# Altium integrated library TI Data Converters Digital to Analog Converter.IntLib: 1533 symbols (part 92 of 99)
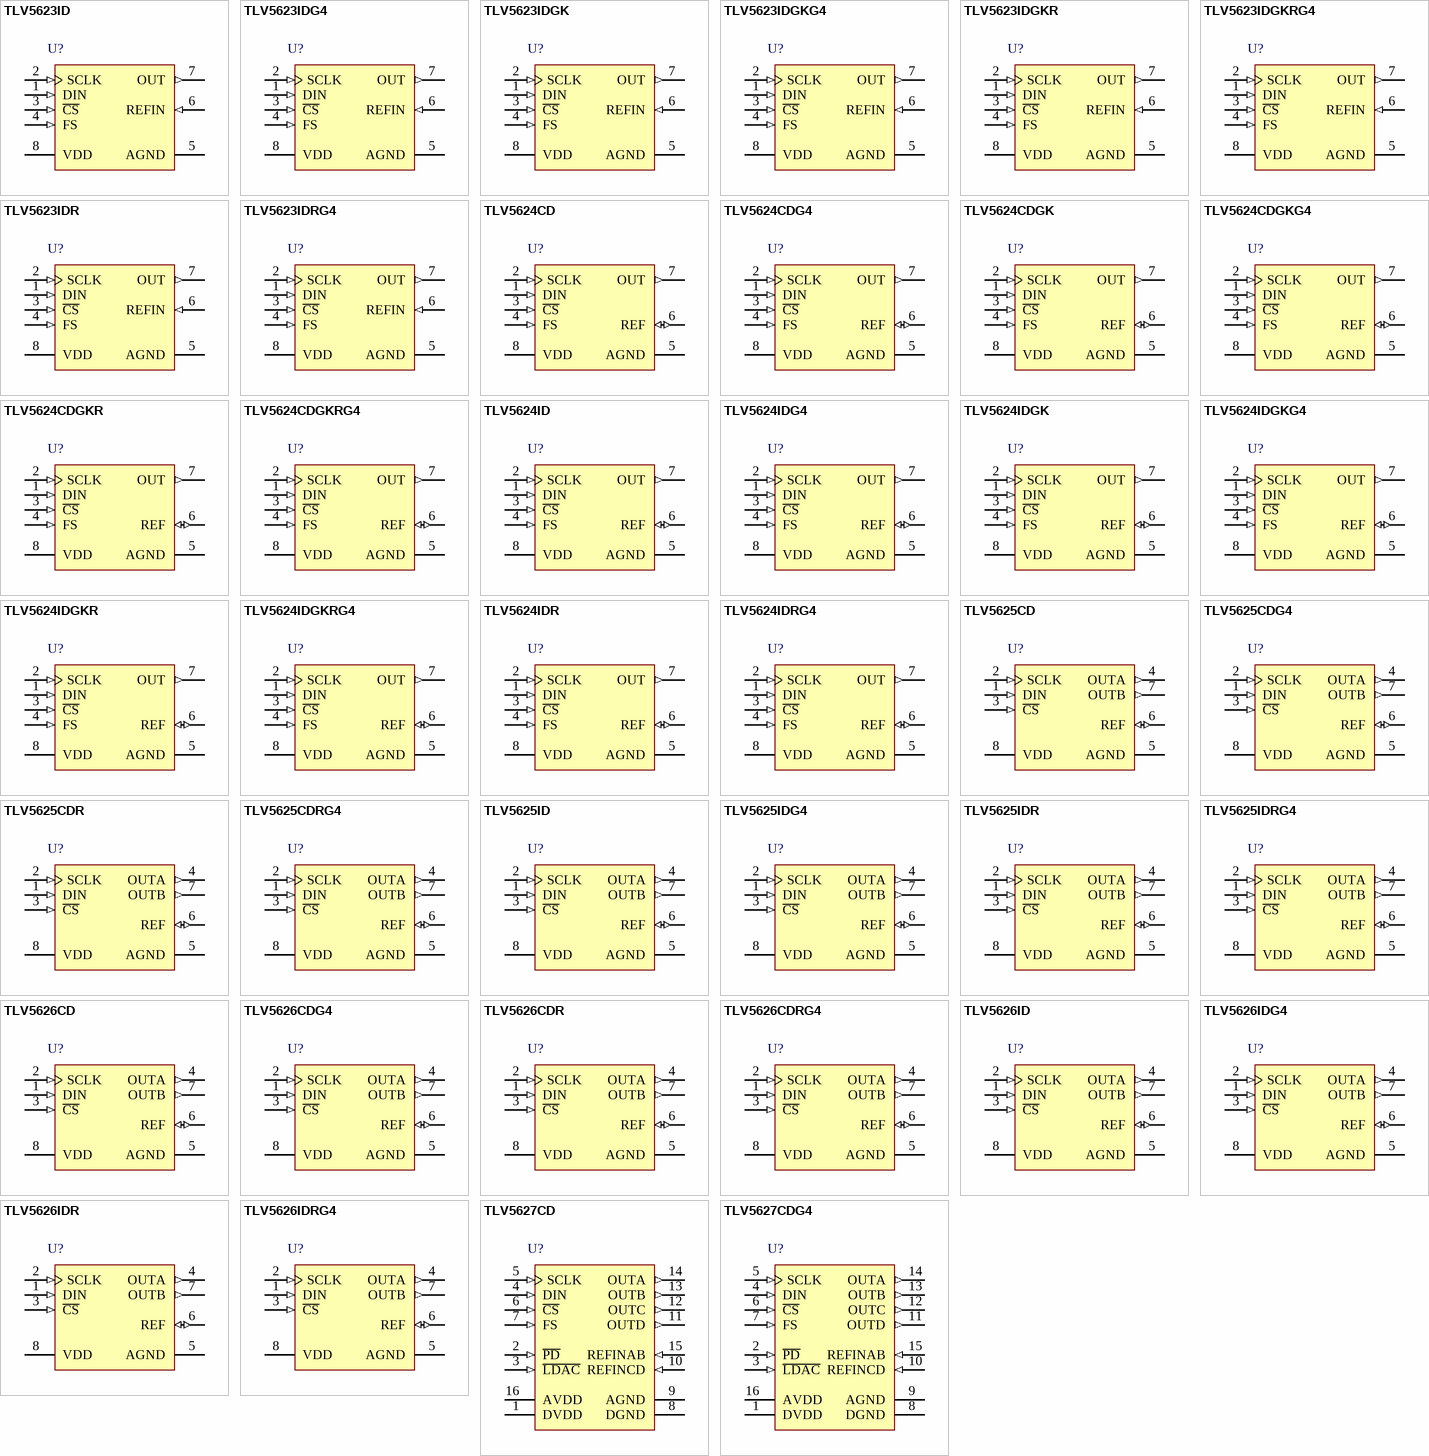
[diagram p164: symbols TLV5623ID to TLV5627CDG4]

## TLV5626IDRG4
designator U?
8-Bit, 1 us Dual DAC, Serial Input, Programmable Internal Reference, Settling Time, -40 to 85 degC, 8-pin SOIC (D8), Green (RoHS & no Sb/Br); Manufacturer: Texas Instruments; PartNumber: TLV5626IDRG4; DAC Channels: 2; DNL(Max)(+/-LSB): 0.5; INL(Max)(+/-LSB): 1; Interface: Serial SPI; Power Consumption(Typ)(mW): 4.2; Resolution(Bits): 8; Settling Time(us): 0.8; SFDR(dB): 62; SNR(dB): 57; SubFamily: Precision DAC (=<10MSPS); DatasheetVersion: SLAS236A; PackageVersion: 4040047-3/M, 06/2011; PackageReference: D8; PackageDescription: 8-Pin Plastic Small Outline, Body 4.9 x 3.9 mm, Pitch 1.27 mm; Supplier 1: Digi-Key; Supplier Part Number 1: TLV5626IDRG4-ND; Supplier 2: Mouser; Supplier Part Number 2: 595-TLV5626IDRG4; Eco-Plan: Green (RoHS & no Sb/Br); Mounting Technology: Surface Mount; Code_JEDEC: MS-012; ComponentLink1Description: Manufacturer URL; ComponentLink1URL: http://www.ti.com/; ComponentLink2Description: Datasheet; ComponentLink2URL: http://www.ti.com/general/docs/lit/getliterature.tsp?genericPartNumber=TLV5626&fileType=pdf; ComponentLink3Description: Package Specification; ComponentLink3URL: http://www.ti.com/litv/pdf/msoi002j
footprint TI-D8_N (SOIC, 8-Leads, Body 4.9x3.9mm, Pitch 1.27mm, IPC Medium Density)
footprint TI-D8_L (SOIC, 8-Leads, Body 4.9x3.9mm, Pitch 1.27mm, IPC High Density)
footprint TI-D8_M (SOIC, 8-Leads, Body 4.9x3.9mm, Pitch 1.27mm, IPC Low Density)
pins: 1 DIN (in) "Digital serial data input", 2 SCLK (in) "Digital serial clock input", 3 ~{CS} (in) "Chip select. Digital input active low, used to enable/disable inputs", 4 OUTA (out) "DAC A analog voltage output", 5 AGND (power) "Ground", 6 REF (io) "Analog reference voltage input/output", 7 OUTB (out) "DAC B analog voltage output", 8 VDD (power) "Positive power supply"

## TLV5627CD
designator U?
8-Bit, 3 us Quad DAC, Serial Input, Low Power, Hardware or Software Power Down, 0 to 70 degC, 16-pin SOIC (D16), Green (RoHS & no Sb/Br); Manufacturer: Texas Instruments; PartNumber: TLV5627CD; DAC Channels: 4; DNL(Max)(+/-LSB): 0.5; Interface: Serial SPI; Power Consumption(Typ)(mW): 3; Resolution(Bits): 8; Settling Time(us): 2.5; SFDR(dB): 60; SNR(dB): 57; SubFamily: Precision DAC (=<10MSPS); DatasheetVersion: SLAS232A; PackageVersion: 4040047-6/M, 06/2011; PackageReference: D16; PackageDescription: 16-Pin Plastic Small Outline, Body 9.9 x 3.9 mm, Pitch 1.27 mm; Supplier 1: Digi-Key; Supplier Part Number 1: 296-2312-5-ND; Supplier 2: Newark; Supplier Part Number 2: 19C9017; Supplier 3: Mouser; Supplier Part Number 3: 595-TLV5627CD; Eco-Plan: Green (RoHS & no Sb/Br); INL(Max)(+/-LSB): 0.5; Mounting Technology: Surface Mount; Code_JEDEC: MS-012; ComponentLink1Description: Manufacturer URL; ComponentLink1URL: http://www.ti.com/; ComponentLink2Description: Datasheet; ComponentLink2URL: http://www.ti.com/general/docs/lit/getliterature.tsp?genericPartNumber=TLV5627&fileType=pdf; ComponentLink3Description: Package Specification; ComponentLink3URL: http://www.ti.com/litv/pdf/mpds178g
footprint TI-D16_N (SOIC, 16-Leads, Body 9.9x3.9mm, Pitch 1.27mm, IPC Medium Density)
footprint TI-D16_L (SOIC, 16-Leads, Body 9.9x3.9mm, Pitch 1.27mm, IPC High Density)
footprint TI-D16_M (SOIC, 16-Leads, Body 9.9x3.9mm, Pitch 1.27mm, IPC Low Density)
pins: 1 DVDD (power) "Digital supply", 2 ~{PD} (in) "Power-down pin. Powers down all DACs (overriding their individual power down settings), and all output stages. This terminal is active low.", 3 ~{LDAC} (in) "Load DAC. When the L\D\A\C\ signal is high, no DAC output updates occur when the input digital data is read into the serial interface. The DAC outputs are only updated when L\D\A\C\ is low.", 4 DIN (in) "Serial data input", 5 SCLK (in) "Serial clock input", 6 ~{CS} (in) "Chip select. This terminal is active low.", 7 FS (in) "Frame sync input. The falling edge of the frame sync pulse indicates the start of a serial data frame shifted out to the TLV5627.", 8 DGND (power) "Digital ground", 9 AGND (power) "Analog ground", 10 REFINCD (in) "Voltage reference input for DACs C and D.", 11 OUTD (out) "DAC D output", 12 OUTC (out) "DAC C output", 13 OUTB (out) "DAC B output", 14 OUTA (out) "DAC A output", 15 REFINAB (in) "Voltage reference input for DACs A and B.", 16 AVDD (power) "Analog supply"

## TLV5627CDG4
designator U?
8-Bit, 3 us Quad DAC, Serial Input, Low Power, Hardware or Software Power Down, 0 to 70 degC, 16-pin SOIC (D16), Green (RoHS & no Sb/Br); Manufacturer: Texas Instruments; PartNumber: TLV5627CDG4; DAC Channels: 4; DNL(Max)(+/-LSB): 0.5; Interface: Serial SPI; Power Consumption(Typ)(mW): 3; Resolution(Bits): 8; Settling Time(us): 2.5; SFDR(dB): 60; SNR(dB): 57; SubFamily: Precision DAC (=<10MSPS); DatasheetVersion: SLAS232A; PackageVersion: 4040047-6/M, 06/2011; PackageReference: D16; PackageDescription: 16-Pin Plastic Small Outline, Body 9.9 x 3.9 mm, Pitch 1.27 mm; Supplier 1: Digi-Key; Supplier Part Number 1: TLV5627CDG4-ND; Supplier 2: Newark; Supplier Part Number 2: 66K4456; Supplier 3: Mouser; Supplier Part Number 3: 595-TLV5627CDG4; Eco-Plan: Green (RoHS & no Sb/Br); INL(Max)(+/-LSB): 0.5; Mounting Technology: Surface Mount; Code_JEDEC: MS-012; ComponentLink1Description: Manufacturer URL; ComponentLink1URL: http://www.ti.com/; ComponentLink2Description: Datasheet; ComponentLink2URL: http://www.ti.com/general/docs/lit/getliterature.tsp?genericPartNumber=TLV5627&fileType=pdf; ComponentLink3Description: Package Specification; ComponentLink3URL: http://www.ti.com/litv/pdf/mpds178g
footprint TI-D16_N (SOIC, 16-Leads, Body 9.9x3.9mm, Pitch 1.27mm, IPC Medium Density)
footprint TI-D16_L (SOIC, 16-Leads, Body 9.9x3.9mm, Pitch 1.27mm, IPC High Density)
footprint TI-D16_M (SOIC, 16-Leads, Body 9.9x3.9mm, Pitch 1.27mm, IPC Low Density)
pins: 1 DVDD (power) "Digital supply", 2 ~{PD} (in) "Power-down pin. Powers down all DACs (overriding their individual power down settings), and all output stages. This terminal is active low.", 3 ~{LDAC} (in) "Load DAC. When the L\D\A\C\ signal is high, no DAC output updates occur when the input digital data is read into the serial interface. The DAC outputs are only updated when L\D\A\C\ is low.", 4 DIN (in) "Serial data input", 5 SCLK (in) "Serial clock input", 6 ~{CS} (in) "Chip select. This terminal is active low.", 7 FS (in) "Frame sync input. The falling edge of the frame sync pulse indicates the start of a serial data frame shifted out to the TLV5627.", 8 DGND (power) "Digital ground", 9 AGND (power) "Analog ground", 10 REFINCD (in) "Voltage reference input for DACs C and D.", 11 OUTD (out) "DAC D output", 12 OUTC (out) "DAC C output", 13 OUTB (out) "DAC B output", 14 OUTA (out) "DAC A output", 15 REFINAB (in) "Voltage reference input for DACs A and B.", 16 AVDD (power) "Analog supply"

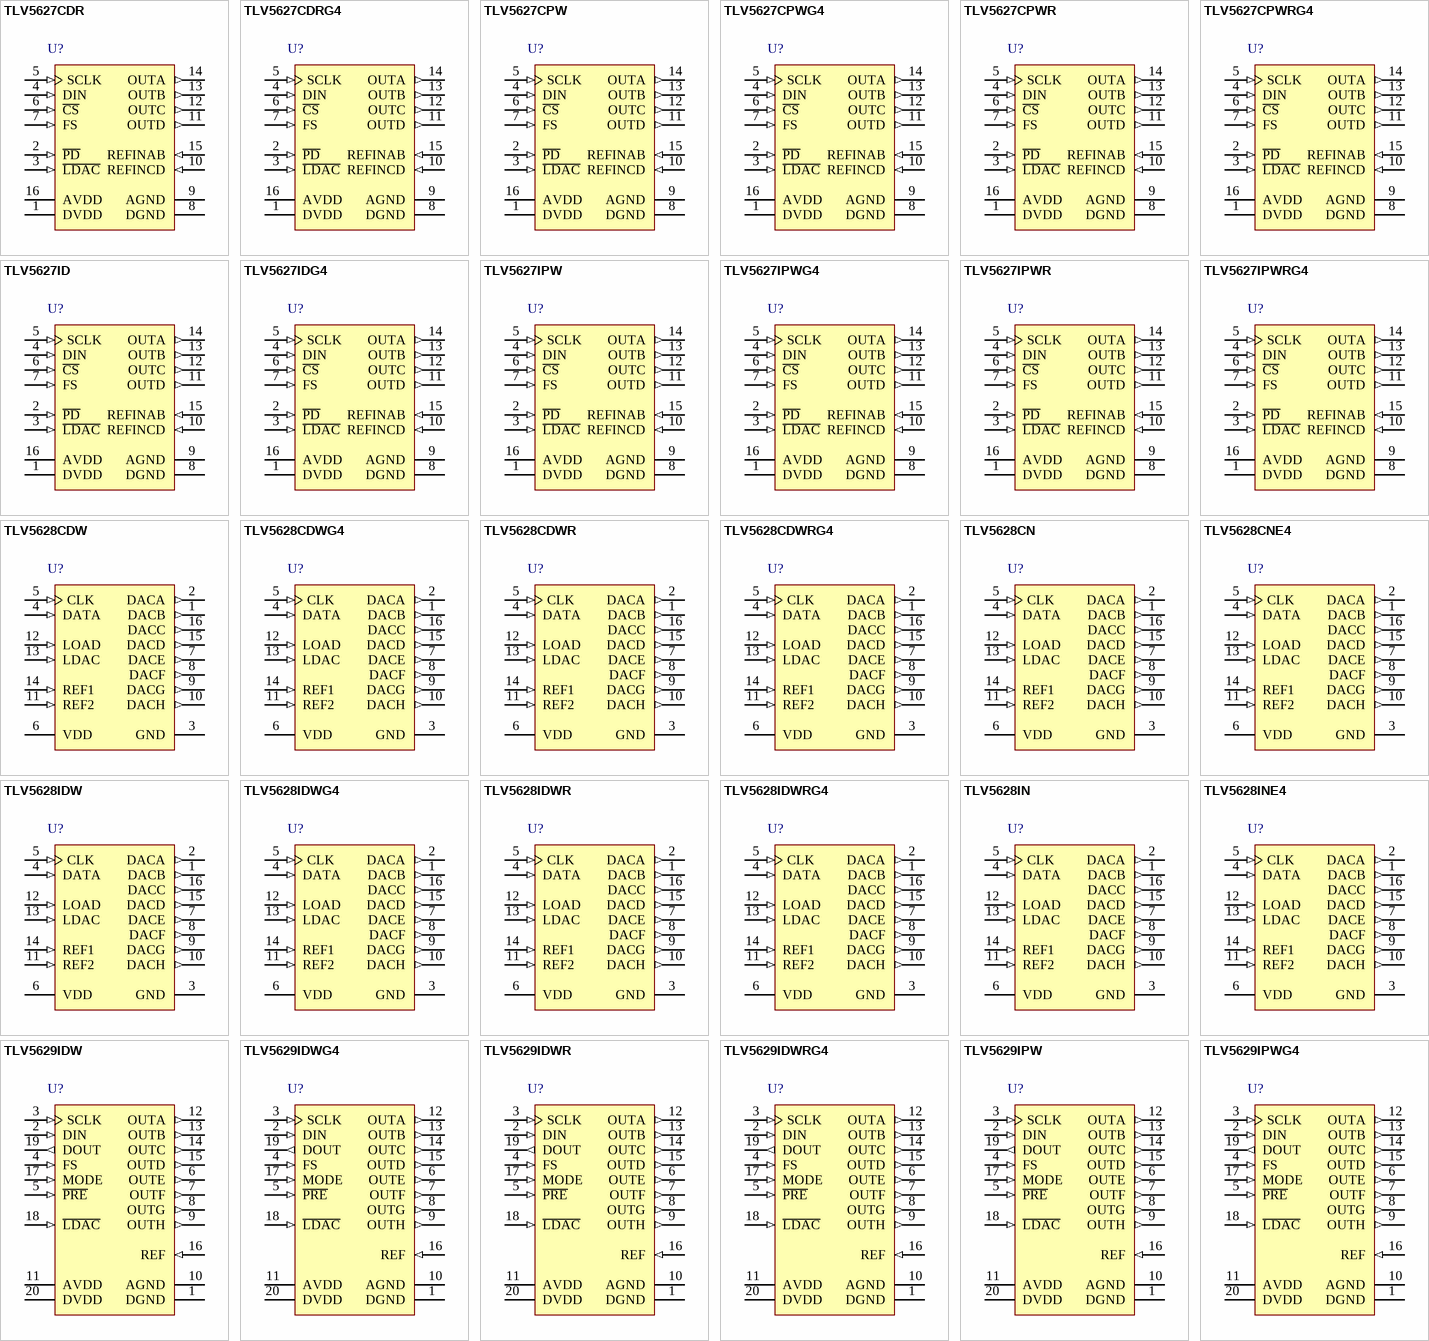
[diagram p68: symbols TLV5627CDR to TLV5629IPWG4]

## TLV5627CDR
designator U?
8-Bit, 3 us Quad DAC, Serial Input, Low Power, Hardware or Software Power Down, 0 to 70 degC, 16-pin SOIC (D16), Green (RoHS & no Sb/Br); Manufacturer: Texas Instruments; PartNumber: TLV5627CDR; DAC Channels: 4; DNL(Max)(+/-LSB): 0.5; Interface: Serial SPI; Power Consumption(Typ)(mW): 3; Resolution(Bits): 8; Settling Time(us): 2.5; SFDR(dB): 60; SNR(dB): 57; SubFamily: Precision DAC (=<10MSPS); DatasheetVersion: SLAS232A; PackageVersion: 4040047-6/M, 06/2011; PackageReference: D16; PackageDescription: 16-Pin Plastic Small Outline, Body 9.9 x 3.9 mm, Pitch 1.27 mm; Supplier 1: Digi-Key; Supplier Part Number 1: TLV5627CDR-ND; Supplier 2: Newark; Supplier Part Number 2: 76C8959; Supplier 3: Mouser; Supplier Part Number 3: 595-TLV5627CDR; Eco-Plan: Green (RoHS & no Sb/Br); INL(Max)(+/-LSB): 0.5; Mounting Technology: Surface Mount; Code_JEDEC: MS-012; ComponentLink1Description: Manufacturer URL; ComponentLink1URL: http://www.ti.com/; ComponentLink2Description: Datasheet; ComponentLink2URL: http://www.ti.com/general/docs/lit/getliterature.tsp?genericPartNumber=TLV5627&fileType=pdf; ComponentLink3Description: Package Specification; ComponentLink3URL: http://www.ti.com/litv/pdf/mpds178g
footprint TI-D16_N (SOIC, 16-Leads, Body 9.9x3.9mm, Pitch 1.27mm, IPC Medium Density)
footprint TI-D16_L (SOIC, 16-Leads, Body 9.9x3.9mm, Pitch 1.27mm, IPC High Density)
footprint TI-D16_M (SOIC, 16-Leads, Body 9.9x3.9mm, Pitch 1.27mm, IPC Low Density)
pins: 1 DVDD (power) "Digital supply", 2 ~{PD} (in) "Power-down pin. Powers down all DACs (overriding their individual power down settings), and all output stages. This terminal is active low.", 3 ~{LDAC} (in) "Load DAC. When the L\D\A\C\ signal is high, no DAC output updates occur when the input digital data is read into the serial interface. The DAC outputs are only updated when L\D\A\C\ is low.", 4 DIN (in) "Serial data input", 5 SCLK (in) "Serial clock input", 6 ~{CS} (in) "Chip select. This terminal is active low.", 7 FS (in) "Frame sync input. The falling edge of the frame sync pulse indicates the start of a serial data frame shifted out to the TLV5627.", 8 DGND (power) "Digital ground", 9 AGND (power) "Analog ground", 10 REFINCD (in) "Voltage reference input for DACs C and D.", 11 OUTD (out) "DAC D output", 12 OUTC (out) "DAC C output", 13 OUTB (out) "DAC B output", 14 OUTA (out) "DAC A output", 15 REFINAB (in) "Voltage reference input for DACs A and B.", 16 AVDD (power) "Analog supply"

## TLV5627CDRG4
designator U?
8-Bit, 3 us Quad DAC, Serial Input, Low Power, Hardware or Software Power Down, 0 to 70 degC, 16-pin SOIC (D16), Green (RoHS & no Sb/Br); Manufacturer: Texas Instruments; PartNumber: TLV5627CDRG4; DAC Channels: 4; DNL(Max)(+/-LSB): 0.5; Interface: Serial SPI; Power Consumption(Typ)(mW): 3; Resolution(Bits): 8; Settling Time(us): 2.5; SFDR(dB): 60; SNR(dB): 57; SubFamily: Precision DAC (=<10MSPS); DatasheetVersion: SLAS232A; PackageVersion: 4040047-6/M, 06/2011; PackageReference: D16; PackageDescription: 16-Pin Plastic Small Outline, Body 9.9 x 3.9 mm, Pitch 1.27 mm; Supplier 1: Digi-Key; Supplier Part Number 1: TLV5627CDRG4-ND; Supplier 2: Mouser; Supplier Part Number 2: 595-TLV5627CDRG4; Eco-Plan: Green (RoHS & no Sb/Br); INL(Max)(+/-LSB): 0.5; Mounting Technology: Surface Mount; Code_JEDEC: MS-012; ComponentLink1Description: Manufacturer URL; ComponentLink1URL: http://www.ti.com/; ComponentLink2Description: Datasheet; ComponentLink2URL: http://www.ti.com/general/docs/lit/getliterature.tsp?genericPartNumber=TLV5627&fileType=pdf; ComponentLink3Description: Package Specification; ComponentLink3URL: http://www.ti.com/litv/pdf/mpds178g
footprint TI-D16_N (SOIC, 16-Leads, Body 9.9x3.9mm, Pitch 1.27mm, IPC Medium Density)
footprint TI-D16_L (SOIC, 16-Leads, Body 9.9x3.9mm, Pitch 1.27mm, IPC High Density)
footprint TI-D16_M (SOIC, 16-Leads, Body 9.9x3.9mm, Pitch 1.27mm, IPC Low Density)
pins: 1 DVDD (power) "Digital supply", 2 ~{PD} (in) "Power-down pin. Powers down all DACs (overriding their individual power down settings), and all output stages. This terminal is active low.", 3 ~{LDAC} (in) "Load DAC. When the L\D\A\C\ signal is high, no DAC output updates occur when the input digital data is read into the serial interface. The DAC outputs are only updated when L\D\A\C\ is low.", 4 DIN (in) "Serial data input", 5 SCLK (in) "Serial clock input", 6 ~{CS} (in) "Chip select. This terminal is active low.", 7 FS (in) "Frame sync input. The falling edge of the frame sync pulse indicates the start of a serial data frame shifted out to the TLV5627.", 8 DGND (power) "Digital ground", 9 AGND (power) "Analog ground", 10 REFINCD (in) "Voltage reference input for DACs C and D.", 11 OUTD (out) "DAC D output", 12 OUTC (out) "DAC C output", 13 OUTB (out) "DAC B output", 14 OUTA (out) "DAC A output", 15 REFINAB (in) "Voltage reference input for DACs A and B.", 16 AVDD (power) "Analog supply"

## TLV5627CPW
designator U?
8-Bit, 3 us Quad DAC, Serial Input, Low Power, Hardware or Software Power Down, 0 to 70 degC, 16-pin SOP (PW16), Green (RoHS & no Sb/Br); Manufacturer: Texas Instruments; PartNumber: TLV5627CPW; DAC Channels: 4; DNL(Max)(+/-LSB): 0.5; Interface: Serial SPI; Power Consumption(Typ)(mW): 3; Resolution(Bits): 8; Settling Time(us): 2.5; SFDR(dB): 60; SNR(dB): 57; SubFamily: Precision DAC (=<10MSPS); DatasheetVersion: SLAS232A; PackageVersion: 4040064-4/G, 02/2011; PackageReference: PW16; PackageDescription: 16-Pin Plastic Small Outline, Body 5 x 4.4 mm, Pitch 0.65 mm; Supplier 1: Digi-Key; Supplier Part Number 1: TLV5627CPW-ND; Supplier 2: Newark; Supplier Part Number 2: 76C8960; Supplier 3: Mouser; Supplier Part Number 3: 595-TLV5627CPW; Eco-Plan: Green (RoHS & no Sb/Br); INL(Max)(+/-LSB): 0.5; Mounting Technology: Surface Mount; Code_JEDEC: MO-153; ComponentLink1Description: Manufacturer URL; ComponentLink1URL: http://www.ti.com/; ComponentLink2Description: Datasheet; ComponentLink2URL: http://www.ti.com/general/docs/lit/getliterature.tsp?genericPartNumber=TLV5627&fileType=pdf; ComponentLink3Description: Package Specification; ComponentLink3URL: http://www.ti.com/lit/ml/mpds361/mpds361.pdf
footprint TI-PW16_N (SOP, 16-Leads, Body 5x4.4mm, Pitch 0.65mm, IPC Medium Density)
footprint TI-PW16_L (SOP, 16-Leads, Body 5x4.4mm, Pitch 0.65mm, IPC High Density)
footprint TI-PW16_M (SOP, 16-Leads, Body 5x4.4mm, Pitch 0.65mm, IPC Low Density)
pins: 1 DVDD (power) "Digital supply", 2 ~{PD} (in) "Power-down pin. Powers down all DACs (overriding their individual power down settings), and all output stages. This terminal is active low.", 3 ~{LDAC} (in) "Load DAC. When the L\D\A\C\ signal is high, no DAC output updates occur when the input digital data is read into the serial interface. The DAC outputs are only updated when L\D\A\C\ is low.", 4 DIN (in) "Serial data input", 5 SCLK (in) "Serial clock input", 6 ~{CS} (in) "Chip select. This terminal is active low.", 7 FS (in) "Frame sync input. The falling edge of the frame sync pulse indicates the start of a serial data frame shifted out to the TLV5627.", 8 DGND (power) "Digital ground", 9 AGND (power) "Analog ground", 10 REFINCD (in) "Voltage reference input for DACs C and D.", 11 OUTD (out) "DAC D output", 12 OUTC (out) "DAC C output", 13 OUTB (out) "DAC B output", 14 OUTA (out) "DAC A output", 15 REFINAB (in) "Voltage reference input for DACs A and B.", 16 AVDD (power) "Analog supply"

## TLV5627CPWG4
designator U?
8-Bit, 3 us Quad DAC, Serial Input, Low Power, Hardware or Software Power Down, 0 to 70 degC, 16-pin SOP (PW16), Green (RoHS & no Sb/Br); Manufacturer: Texas Instruments; PartNumber: TLV5627CPWG4; DAC Channels: 4; DNL(Max)(+/-LSB): 0.5; Interface: Serial SPI; Power Consumption(Typ)(mW): 3; Resolution(Bits): 8; Settling Time(us): 2.5; SFDR(dB): 60; SNR(dB): 57; SubFamily: Precision DAC (=<10MSPS); DatasheetVersion: SLAS232A; PackageVersion: 4040064-4/G, 02/2011; PackageReference: PW16; PackageDescription: 16-Pin Plastic Small Outline, Body 5 x 4.4 mm, Pitch 0.65 mm; Supplier 1: Digi-Key; Supplier Part Number 1: TLV5627CPWG4-ND; Supplier 2: Mouser; Supplier Part Number 2: 595-TLV5627CPWG4; Eco-Plan: Green (RoHS & no Sb/Br); INL(Max)(+/-LSB): 0.5; Mounting Technology: Surface Mount; Code_JEDEC: MO-153; ComponentLink1Description: Manufacturer URL; ComponentLink1URL: http://www.ti.com/; ComponentLink2Description: Datasheet; ComponentLink2URL: http://www.ti.com/general/docs/lit/getliterature.tsp?genericPartNumber=TLV5627&fileType=pdf; ComponentLink3Description: Package Specification; ComponentLink3URL: http://www.ti.com/lit/ml/mpds361/mpds361.pdf
footprint TI-PW16_N (SOP, 16-Leads, Body 5x4.4mm, Pitch 0.65mm, IPC Medium Density)
footprint TI-PW16_L (SOP, 16-Leads, Body 5x4.4mm, Pitch 0.65mm, IPC High Density)
footprint TI-PW16_M (SOP, 16-Leads, Body 5x4.4mm, Pitch 0.65mm, IPC Low Density)
pins: 1 DVDD (power) "Digital supply", 2 ~{PD} (in) "Power-down pin. Powers down all DACs (overriding their individual power down settings), and all output stages. This terminal is active low.", 3 ~{LDAC} (in) "Load DAC. When the L\D\A\C\ signal is high, no DAC output updates occur when the input digital data is read into the serial interface. The DAC outputs are only updated when L\D\A\C\ is low.", 4 DIN (in) "Serial data input", 5 SCLK (in) "Serial clock input", 6 ~{CS} (in) "Chip select. This terminal is active low.", 7 FS (in) "Frame sync input. The falling edge of the frame sync pulse indicates the start of a serial data frame shifted out to the TLV5627.", 8 DGND (power) "Digital ground", 9 AGND (power) "Analog ground", 10 REFINCD (in) "Voltage reference input for DACs C and D.", 11 OUTD (out) "DAC D output", 12 OUTC (out) "DAC C output", 13 OUTB (out) "DAC B output", 14 OUTA (out) "DAC A output", 15 REFINAB (in) "Voltage reference input for DACs A and B.", 16 AVDD (power) "Analog supply"

## TLV5627CPWR
designator U?
8-Bit, 3 us Quad DAC, Serial Input, Low Power, Hardware or Software Power Down, 0 to 70 degC, 16-pin SOP (PW16), Green (RoHS & no Sb/Br); Manufacturer: Texas Instruments; PartNumber: TLV5627CPWR; DAC Channels: 4; DNL(Max)(+/-LSB): 0.5; Interface: Serial SPI; Power Consumption(Typ)(mW): 3; Resolution(Bits): 8; Settling Time(us): 2.5; SFDR(dB): 60; SNR(dB): 57; SubFamily: Precision DAC (=<10MSPS); DatasheetVersion: SLAS232A; PackageVersion: 4040064-4/G, 02/2011; PackageReference: PW16; PackageDescription: 16-Pin Plastic Small Outline, Body 5 x 4.4 mm, Pitch 0.65 mm; Supplier 1: Digi-Key; Supplier Part Number 1: TLV5627CPWR-ND; Supplier 2: Mouser; Supplier Part Number 2: 595-TLV5627CPWR; Eco-Plan: Green (RoHS & no Sb/Br); INL(Max)(+/-LSB): 0.5; Mounting Technology: Surface Mount; Code_JEDEC: MO-153; ComponentLink1Description: Manufacturer URL; ComponentLink1URL: http://www.ti.com/; ComponentLink2Description: Datasheet; ComponentLink2URL: http://www.ti.com/general/docs/lit/getliterature.tsp?genericPartNumber=TLV5627&fileType=pdf; ComponentLink3Description: Package Specification; ComponentLink3URL: http://www.ti.com/lit/ml/mpds361/mpds361.pdf
footprint TI-PW16_N (SOP, 16-Leads, Body 5x4.4mm, Pitch 0.65mm, IPC Medium Density)
footprint TI-PW16_L (SOP, 16-Leads, Body 5x4.4mm, Pitch 0.65mm, IPC High Density)
footprint TI-PW16_M (SOP, 16-Leads, Body 5x4.4mm, Pitch 0.65mm, IPC Low Density)
pins: 1 DVDD (power) "Digital supply", 2 ~{PD} (in) "Power-down pin. Powers down all DACs (overriding their individual power down settings), and all output stages. This terminal is active low.", 3 ~{LDAC} (in) "Load DAC. When the L\D\A\C\ signal is high, no DAC output updates occur when the input digital data is read into the serial interface. The DAC outputs are only updated when L\D\A\C\ is low.", 4 DIN (in) "Serial data input", 5 SCLK (in) "Serial clock input", 6 ~{CS} (in) "Chip select. This terminal is active low.", 7 FS (in) "Frame sync input. The falling edge of the frame sync pulse indicates the start of a serial data frame shifted out to the TLV5627.", 8 DGND (power) "Digital ground", 9 AGND (power) "Analog ground", 10 REFINCD (in) "Voltage reference input for DACs C and D.", 11 OUTD (out) "DAC D output", 12 OUTC (out) "DAC C output", 13 OUTB (out) "DAC B output", 14 OUTA (out) "DAC A output", 15 REFINAB (in) "Voltage reference input for DACs A and B.", 16 AVDD (power) "Analog supply"

## TLV5627CPWRG4
designator U?
8-Bit, 3 us Quad DAC, Serial Input, Low Power, Hardware or Software Power Down, 0 to 70 degC, 16-pin SOP (PW16), Green (RoHS & no Sb/Br); Manufacturer: Texas Instruments; PartNumber: TLV5627CPWRG4; DAC Channels: 4; DNL(Max)(+/-LSB): 0.5; Interface: Serial SPI; Power Consumption(Typ)(mW): 3; Resolution(Bits): 8; Settling Time(us): 2.5; SFDR(dB): 60; SNR(dB): 57; SubFamily: Precision DAC (=<10MSPS); DatasheetVersion: SLAS232A; PackageVersion: 4040064-4/G, 02/2011; PackageReference: PW16; PackageDescription: 16-Pin Plastic Small Outline, Body 5 x 4.4 mm, Pitch 0.65 mm; Supplier 1: Digi-Key; Supplier Part Number 1: TLV5627CPWRG4-ND; Supplier 2: Mouser; Supplier Part Number 2: 595-TLV5627CPWRG4; Eco-Plan: Green (RoHS & no Sb/Br); INL(Max)(+/-LSB): 0.5; Mounting Technology: Surface Mount; Code_JEDEC: MO-153; ComponentLink1Description: Manufacturer URL; ComponentLink1URL: http://www.ti.com/; ComponentLink2Description: Datasheet; ComponentLink2URL: http://www.ti.com/general/docs/lit/getliterature.tsp?genericPartNumber=TLV5627&fileType=pdf; ComponentLink3Description: Package Specification; ComponentLink3URL: http://www.ti.com/lit/ml/mpds361/mpds361.pdf
footprint TI-PW16_N (SOP, 16-Leads, Body 5x4.4mm, Pitch 0.65mm, IPC Medium Density)
footprint TI-PW16_L (SOP, 16-Leads, Body 5x4.4mm, Pitch 0.65mm, IPC High Density)
footprint TI-PW16_M (SOP, 16-Leads, Body 5x4.4mm, Pitch 0.65mm, IPC Low Density)
pins: 1 DVDD (power) "Digital supply", 2 ~{PD} (in) "Power-down pin. Powers down all DACs (overriding their individual power down settings), and all output stages. This terminal is active low.", 3 ~{LDAC} (in) "Load DAC. When the L\D\A\C\ signal is high, no DAC output updates occur when the input digital data is read into the serial interface. The DAC outputs are only updated when L\D\A\C\ is low.", 4 DIN (in) "Serial data input", 5 SCLK (in) "Serial clock input", 6 ~{CS} (in) "Chip select. This terminal is active low.", 7 FS (in) "Frame sync input. The falling edge of the frame sync pulse indicates the start of a serial data frame shifted out to the TLV5627.", 8 DGND (power) "Digital ground", 9 AGND (power) "Analog ground", 10 REFINCD (in) "Voltage reference input for DACs C and D.", 11 OUTD (out) "DAC D output", 12 OUTC (out) "DAC C output", 13 OUTB (out) "DAC B output", 14 OUTA (out) "DAC A output", 15 REFINAB (in) "Voltage reference input for DACs A and B.", 16 AVDD (power) "Analog supply"

## TLV5627ID
designator U?
8-Bit, 3 us Quad DAC, Serial Input, Low Power, Hardware or Software Power Down, -40 to 85 degC, 16-pin SOIC (D16), Green (RoHS & no Sb/Br); Manufacturer: Texas Instruments; PartNumber: TLV5627ID; DAC Channels: 4; DNL(Max)(+/-LSB): 0.5; Interface: Serial SPI; Power Consumption(Typ)(mW): 3; Resolution(Bits): 8; Settling Time(us): 2.5; SFDR(dB): 60; SNR(dB): 57; SubFamily: Precision DAC (=<10MSPS); DatasheetVersion: SLAS232A; PackageVersion: 4040047-6/M, 06/2011; PackageReference: D16; PackageDescription: 16-Pin Plastic Small Outline, Body 9.9 x 3.9 mm, Pitch 1.27 mm; Supplier 1: Digi-Key; Supplier Part Number 1: 296-3058-5-ND; Supplier 2: Newark; Supplier Part Number 2: 76C8962; Supplier 3: Mouser; Supplier Part Number 3: 595-TLV5627ID; Eco-Plan: Green (RoHS & no Sb/Br); INL(Max)(+/-LSB): 0.5; Mounting Technology: Surface Mount; Code_JEDEC: MS-012; ComponentLink1Description: Manufacturer URL; ComponentLink1URL: http://www.ti.com/; ComponentLink2Description: Datasheet; ComponentLink2URL: http://www.ti.com/general/docs/lit/getliterature.tsp?genericPartNumber=TLV5627&fileType=pdf; ComponentLink3Description: Package Specification; ComponentLink3URL: http://www.ti.com/litv/pdf/mpds178g
footprint TI-D16_N (SOIC, 16-Leads, Body 9.9x3.9mm, Pitch 1.27mm, IPC Medium Density)
footprint TI-D16_L (SOIC, 16-Leads, Body 9.9x3.9mm, Pitch 1.27mm, IPC High Density)
footprint TI-D16_M (SOIC, 16-Leads, Body 9.9x3.9mm, Pitch 1.27mm, IPC Low Density)
pins: 1 DVDD (power) "Digital supply", 2 ~{PD} (in) "Power-down pin. Powers down all DACs (overriding their individual power down settings), and all output stages. This terminal is active low.", 3 ~{LDAC} (in) "Load DAC. When the L\D\A\C\ signal is high, no DAC output updates occur when the input digital data is read into the serial interface. The DAC outputs are only updated when L\D\A\C\ is low.", 4 DIN (in) "Serial data input", 5 SCLK (in) "Serial clock input", 6 ~{CS} (in) "Chip select. This terminal is active low.", 7 FS (in) "Frame sync input. The falling edge of the frame sync pulse indicates the start of a serial data frame shifted out to the TLV5627.", 8 DGND (power) "Digital ground", 9 AGND (power) "Analog ground", 10 REFINCD (in) "Voltage reference input for DACs C and D.", 11 OUTD (out) "DAC D output", 12 OUTC (out) "DAC C output", 13 OUTB (out) "DAC B output", 14 OUTA (out) "DAC A output", 15 REFINAB (in) "Voltage reference input for DACs A and B.", 16 AVDD (power) "Analog supply"

## TLV5627IDG4
designator U?
8-Bit, 3 us Quad DAC, Serial Input, Low Power, Hardware or Software Power Down, -40 to 85 degC, 16-pin SOIC (D16), Green (RoHS & no Sb/Br); Manufacturer: Texas Instruments; PartNumber: TLV5627IDG4; DAC Channels: 4; DNL(Max)(+/-LSB): 0.5; Interface: Serial SPI; Power Consumption(Typ)(mW): 3; Resolution(Bits): 8; Settling Time(us): 2.5; SFDR(dB): 60; SNR(dB): 57; SubFamily: Precision DAC (=<10MSPS); DatasheetVersion: SLAS232A; PackageVersion: 4040047-6/M, 06/2011; PackageReference: D16; PackageDescription: 16-Pin Plastic Small Outline, Body 9.9 x 3.9 mm, Pitch 1.27 mm; Supplier 1: Digi-Key; Supplier Part Number 1: TLV5627IDG4-ND; Supplier 2: Mouser; Supplier Part Number 2: 595-TLV5627IDG4; Eco-Plan: Green (RoHS & no Sb/Br); INL(Max)(+/-LSB): 0.5; Mounting Technology: Surface Mount; Code_JEDEC: MS-012; ComponentLink1Description: Manufacturer URL; ComponentLink1URL: http://www.ti.com/; ComponentLink2Description: Datasheet; ComponentLink2URL: http://www.ti.com/general/docs/lit/getliterature.tsp?genericPartNumber=TLV5627&fileType=pdf; ComponentLink3Description: Package Specification; ComponentLink3URL: http://www.ti.com/litv/pdf/mpds178g
footprint TI-D16_N (SOIC, 16-Leads, Body 9.9x3.9mm, Pitch 1.27mm, IPC Medium Density)
footprint TI-D16_L (SOIC, 16-Leads, Body 9.9x3.9mm, Pitch 1.27mm, IPC High Density)
footprint TI-D16_M (SOIC, 16-Leads, Body 9.9x3.9mm, Pitch 1.27mm, IPC Low Density)
pins: 1 DVDD (power) "Digital supply", 2 ~{PD} (in) "Power-down pin. Powers down all DACs (overriding their individual power down settings), and all output stages. This terminal is active low.", 3 ~{LDAC} (in) "Load DAC. When the L\D\A\C\ signal is high, no DAC output updates occur when the input digital data is read into the serial interface. The DAC outputs are only updated when L\D\A\C\ is low.", 4 DIN (in) "Serial data input", 5 SCLK (in) "Serial clock input", 6 ~{CS} (in) "Chip select. This terminal is active low.", 7 FS (in) "Frame sync input. The falling edge of the frame sync pulse indicates the start of a serial data frame shifted out to the TLV5627.", 8 DGND (power) "Digital ground", 9 AGND (power) "Analog ground", 10 REFINCD (in) "Voltage reference input for DACs C and D.", 11 OUTD (out) "DAC D output", 12 OUTC (out) "DAC C output", 13 OUTB (out) "DAC B output", 14 OUTA (out) "DAC A output", 15 REFINAB (in) "Voltage reference input for DACs A and B.", 16 AVDD (power) "Analog supply"

## TLV5627IPW
designator U?
8-Bit, 3 us Quad DAC, Serial Input, Low Power, Hardware or Software Power Down, -40 to 85 degC, 16-pin SOP (PW16), Green (RoHS & no Sb/Br); Manufacturer: Texas Instruments; PartNumber: TLV5627IPW; DAC Channels: 4; DNL(Max)(+/-LSB): 0.5; Interface: Serial SPI; Power Consumption(Typ)(mW): 3; Resolution(Bits): 8; Settling Time(us): 2.5; SFDR(dB): 60; SNR(dB): 57; SubFamily: Precision DAC (=<10MSPS); DatasheetVersion: SLAS232A; PackageVersion: 4040064-4/G, 02/2011; PackageReference: PW16; PackageDescription: 16-Pin Plastic Small Outline, Body 5 x 4.4 mm, Pitch 0.65 mm; Supplier 1: Digi-Key; Supplier Part Number 1: 296-3059-5-ND; Supplier 2: Newark; Supplier Part Number 2: 76C8964; Supplier 3: Mouser; Supplier Part Number 3: 595-TLV5627IPW; Eco-Plan: Green (RoHS & no Sb/Br); INL(Max)(+/-LSB): 0.5; Mounting Technology: Surface Mount; Code_JEDEC: MO-153; ComponentLink1Description: Manufacturer URL; ComponentLink1URL: http://www.ti.com/; ComponentLink2Description: Datasheet; ComponentLink2URL: http://www.ti.com/general/docs/lit/getliterature.tsp?genericPartNumber=TLV5627&fileType=pdf; ComponentLink3Description: Package Specification; ComponentLink3URL: http://www.ti.com/lit/ml/mpds361/mpds361.pdf
footprint TI-PW16_N (SOP, 16-Leads, Body 5x4.4mm, Pitch 0.65mm, IPC Medium Density)
footprint TI-PW16_L (SOP, 16-Leads, Body 5x4.4mm, Pitch 0.65mm, IPC High Density)
footprint TI-PW16_M (SOP, 16-Leads, Body 5x4.4mm, Pitch 0.65mm, IPC Low Density)
pins: 1 DVDD (power) "Digital supply", 2 ~{PD} (in) "Power-down pin. Powers down all DACs (overriding their individual power down settings), and all output stages. This terminal is active low.", 3 ~{LDAC} (in) "Load DAC. When the L\D\A\C\ signal is high, no DAC output updates occur when the input digital data is read into the serial interface. The DAC outputs are only updated when L\D\A\C\ is low.", 4 DIN (in) "Serial data input", 5 SCLK (in) "Serial clock input", 6 ~{CS} (in) "Chip select. This terminal is active low.", 7 FS (in) "Frame sync input. The falling edge of the frame sync pulse indicates the start of a serial data frame shifted out to the TLV5627.", 8 DGND (power) "Digital ground", 9 AGND (power) "Analog ground", 10 REFINCD (in) "Voltage reference input for DACs C and D.", 11 OUTD (out) "DAC D output", 12 OUTC (out) "DAC C output", 13 OUTB (out) "DAC B output", 14 OUTA (out) "DAC A output", 15 REFINAB (in) "Voltage reference input for DACs A and B.", 16 AVDD (power) "Analog supply"

## TLV5627IPWG4
designator U?
8-Bit, 3 us Quad DAC, Serial Input, Low Power, Hardware or Software Power Down, -40 to 85 degC, 16-pin SOP (PW16), Green (RoHS & no Sb/Br); Manufacturer: Texas Instruments; PartNumber: TLV5627IPWG4; DAC Channels: 4; DNL(Max)(+/-LSB): 0.5; Interface: Serial SPI; Power Consumption(Typ)(mW): 3; Resolution(Bits): 8; Settling Time(us): 2.5; SFDR(dB): 60; SNR(dB): 57; SubFamily: Precision DAC (=<10MSPS); DatasheetVersion: SLAS232A; PackageVersion: 4040064-4/G, 02/2011; PackageReference: PW16; PackageDescription: 16-Pin Plastic Small Outline, Body 5 x 4.4 mm, Pitch 0.65 mm; Supplier 1: Digi-Key; Supplier Part Number 1: TLV5627IPWG4-ND; Supplier 2: Mouser; Supplier Part Number 2: 595-TLV5627IPWG4; Eco-Plan: Green (RoHS & no Sb/Br); INL(Max)(+/-LSB): 0.5; Mounting Technology: Surface Mount; Code_JEDEC: MO-153; ComponentLink1Description: Manufacturer URL; ComponentLink1URL: http://www.ti.com/; ComponentLink2Description: Datasheet; ComponentLink2URL: http://www.ti.com/general/docs/lit/getliterature.tsp?genericPartNumber=TLV5627&fileType=pdf; ComponentLink3Description: Package Specification; ComponentLink3URL: http://www.ti.com/lit/ml/mpds361/mpds361.pdf
footprint TI-PW16_N (SOP, 16-Leads, Body 5x4.4mm, Pitch 0.65mm, IPC Medium Density)
footprint TI-PW16_L (SOP, 16-Leads, Body 5x4.4mm, Pitch 0.65mm, IPC High Density)
footprint TI-PW16_M (SOP, 16-Leads, Body 5x4.4mm, Pitch 0.65mm, IPC Low Density)
pins: 1 DVDD (power) "Digital supply", 2 ~{PD} (in) "Power-down pin. Powers down all DACs (overriding their individual power down settings), and all output stages. This terminal is active low.", 3 ~{LDAC} (in) "Load DAC. When the L\D\A\C\ signal is high, no DAC output updates occur when the input digital data is read into the serial interface. The DAC outputs are only updated when L\D\A\C\ is low.", 4 DIN (in) "Serial data input", 5 SCLK (in) "Serial clock input", 6 ~{CS} (in) "Chip select. This terminal is active low.", 7 FS (in) "Frame sync input. The falling edge of the frame sync pulse indicates the start of a serial data frame shifted out to the TLV5627.", 8 DGND (power) "Digital ground", 9 AGND (power) "Analog ground", 10 REFINCD (in) "Voltage reference input for DACs C and D.", 11 OUTD (out) "DAC D output", 12 OUTC (out) "DAC C output", 13 OUTB (out) "DAC B output", 14 OUTA (out) "DAC A output", 15 REFINAB (in) "Voltage reference input for DACs A and B.", 16 AVDD (power) "Analog supply"

## TLV5627IPWR
designator U?
8-Bit, 3 us Quad DAC, Serial Input, Low Power, Hardware or Software Power Down, -40 to 85 degC, 16-pin SOP (PW16), Green (RoHS & no Sb/Br); Manufacturer: Texas Instruments; PartNumber: TLV5627IPWR; DAC Channels: 4; DNL(Max)(+/-LSB): 0.5; Interface: Serial SPI; Power Consumption(Typ)(mW): 3; Resolution(Bits): 8; Settling Time(us): 2.5; SFDR(dB): 60; SNR(dB): 57; SubFamily: Precision DAC (=<10MSPS); DatasheetVersion: SLAS232A; PackageVersion: 4040064-4/G, 02/2011; PackageReference: PW16; PackageDescription: 16-Pin Plastic Small Outline, Body 5 x 4.4 mm, Pitch 0.65 mm; Supplier 1: Digi-Key; Supplier Part Number 1: TLV5627IPWR-ND; Supplier 2: Mouser; Supplier Part Number 2: 595-TLV5627IPWR; Eco-Plan: Green (RoHS & no Sb/Br); INL(Max)(+/-LSB): 0.5; Mounting Technology: Surface Mount; Code_JEDEC: MO-153; ComponentLink1Description: Manufacturer URL; ComponentLink1URL: http://www.ti.com/; ComponentLink2Description: Datasheet; ComponentLink2URL: http://www.ti.com/general/docs/lit/getliterature.tsp?genericPartNumber=TLV5627&fileType=pdf; ComponentLink3Description: Package Specification; ComponentLink3URL: http://www.ti.com/lit/ml/mpds361/mpds361.pdf
footprint TI-PW16_N (SOP, 16-Leads, Body 5x4.4mm, Pitch 0.65mm, IPC Medium Density)
footprint TI-PW16_L (SOP, 16-Leads, Body 5x4.4mm, Pitch 0.65mm, IPC High Density)
footprint TI-PW16_M (SOP, 16-Leads, Body 5x4.4mm, Pitch 0.65mm, IPC Low Density)
pins: 1 DVDD (power) "Digital supply", 2 ~{PD} (in) "Power-down pin. Powers down all DACs (overriding their individual power down settings), and all output stages. This terminal is active low.", 3 ~{LDAC} (in) "Load DAC. When the L\D\A\C\ signal is high, no DAC output updates occur when the input digital data is read into the serial interface. The DAC outputs are only updated when L\D\A\C\ is low.", 4 DIN (in) "Serial data input", 5 SCLK (in) "Serial clock input", 6 ~{CS} (in) "Chip select. This terminal is active low.", 7 FS (in) "Frame sync input. The falling edge of the frame sync pulse indicates the start of a serial data frame shifted out to the TLV5627.", 8 DGND (power) "Digital ground", 9 AGND (power) "Analog ground", 10 REFINCD (in) "Voltage reference input for DACs C and D.", 11 OUTD (out) "DAC D output", 12 OUTC (out) "DAC C output", 13 OUTB (out) "DAC B output", 14 OUTA (out) "DAC A output", 15 REFINAB (in) "Voltage reference input for DACs A and B.", 16 AVDD (power) "Analog supply"

## TLV5627IPWRG4
designator U?
8-Bit, 3 us Quad DAC, Serial Input, Low Power, Hardware or Software Power Down, -40 to 85 degC, 16-pin SOP (PW16), Green (RoHS & no Sb/Br); Manufacturer: Texas Instruments; PartNumber: TLV5627IPWRG4; DAC Channels: 4; DNL(Max)(+/-LSB): 0.5; Interface: Serial SPI; Power Consumption(Typ)(mW): 3; Resolution(Bits): 8; Settling Time(us): 2.5; SFDR(dB): 60; SNR(dB): 57; SubFamily: Precision DAC (=<10MSPS); DatasheetVersion: SLAS232A; PackageVersion: 4040064-4/G, 02/2011; PackageReference: PW16; PackageDescription: 16-Pin Plastic Small Outline, Body 5 x 4.4 mm, Pitch 0.65 mm; Supplier 1: Digi-Key; Supplier Part Number 1: TLV5627IPWRG4-ND; Supplier 2: Mouser; Supplier Part Number 2: 595-TLV5627IPWRG4; Eco-Plan: Green (RoHS & no Sb/Br); INL(Max)(+/-LSB): 0.5; Mounting Technology: Surface Mount; Code_JEDEC: MO-153; ComponentLink1Description: Manufacturer URL; ComponentLink1URL: http://www.ti.com/; ComponentLink2Description: Datasheet; ComponentLink2URL: http://www.ti.com/general/docs/lit/getliterature.tsp?genericPartNumber=TLV5627&fileType=pdf; ComponentLink3Description: Package Specification; ComponentLink3URL: http://www.ti.com/lit/ml/mpds361/mpds361.pdf
footprint TI-PW16_N (SOP, 16-Leads, Body 5x4.4mm, Pitch 0.65mm, IPC Medium Density)
footprint TI-PW16_L (SOP, 16-Leads, Body 5x4.4mm, Pitch 0.65mm, IPC High Density)
footprint TI-PW16_M (SOP, 16-Leads, Body 5x4.4mm, Pitch 0.65mm, IPC Low Density)
pins: 1 DVDD (power) "Digital supply", 2 ~{PD} (in) "Power-down pin. Powers down all DACs (overriding their individual power down settings), and all output stages. This terminal is active low.", 3 ~{LDAC} (in) "Load DAC. When the L\D\A\C\ signal is high, no DAC output updates occur when the input digital data is read into the serial interface. The DAC outputs are only updated when L\D\A\C\ is low.", 4 DIN (in) "Serial data input", 5 SCLK (in) "Serial clock input", 6 ~{CS} (in) "Chip select. This terminal is active low.", 7 FS (in) "Frame sync input. The falling edge of the frame sync pulse indicates the start of a serial data frame shifted out to the TLV5627.", 8 DGND (power) "Digital ground", 9 AGND (power) "Analog ground", 10 REFINCD (in) "Voltage reference input for DACs C and D.", 11 OUTD (out) "DAC D output", 12 OUTC (out) "DAC C output", 13 OUTB (out) "DAC B output", 14 OUTA (out) "DAC A output", 15 REFINAB (in) "Voltage reference input for DACs A and B.", 16 AVDD (power) "Analog supply"

## TLV5628CDW
designator U?
8-Bit, 10 us Octal DAC, Serial Input, Programmable 1 x or 2 x Output, Low Power, 0 to 70 degC, 16-pin SOIC (DW16), Green (RoHS & no Sb/Br); Manufacturer: Texas Instruments; PartNumber: TLV5628CDW; DAC Channels: 8; DNL(Max)(+/-LSB): 0.9; INL(Max)(+/-LSB): 1; Interface: Serial SPI; Power Consumption(Typ)(mW): 12; Settling Time(us): 10; SubFamily: Precision DAC (=<10MSPS); DatasheetVersion: SLAS108A; PackageVersion: 4040000-2/G, 01/2011; PackageReference: DW16; PackageDescription: 16-Pin Plastic Small Outline, Body 10.30 x 7.50 mm, Pitch 1.27 mm; Supplier 1: Digi-Key; Supplier Part Number 1: 296-3060-5-ND; Supplier 2: Farnell; Supplier Part Number 2: 8455767; Supplier 3: Newark; Supplier Part Number 3: 38K8491; Supplier 4: Newark; Supplier Part Number 4: 83F9170; Supplier 5: Mouser; Supplier Part Number 5: 595-TLV5628CDW; Eco-Plan: Green (RoHS & no Sb/Br); Resolution(Bits): 8; Mounting Technology: Surface Mount; Code_JEDEC: MS-013; ComponentLink1Description: Manufacturer URL; ComponentLink1URL: http://www.ti.com/; ComponentLink2Description: Datasheet; ComponentLink2URL: http://www.ti.com/general/docs/lit/getliterature.tsp?genericPartNumber=TLV5628&fileType=pdf; ComponentLink3Description: Package Specification; ComponentLink3URL: http://www.ti.com/litv/pdf/msoi003g
footprint TI-DW16_N (SOIC, 16-Leads, Body 10.3x7.5mm, Pitch 1.27mm, IPC Medium Density)
footprint TI-DW16_L (SOIC, 16-Leads, Body 10.3x7.5mm, Pitch 1.27mm, IPC High Density)
footprint TI-DW16_M (SOIC, 16-Leads, Body 10.3x7.5mm, Pitch 1.27mm, IPC Low Density)
pins: 1 DACB (out) "DACB analog output", 2 DACA (out) "DACA analog output", 3 GND (power) "Ground return and reference terminal", 4 DATA (in) "Serial-interface digital data input", 5 CLK (in) "Serial-interface clock, data enters on the negative edge", 6 VDD (power) "Positive supply voltage", 7 DACE (out) "DACE analog output", 8 DACF (out) "DACF analog output", 9 DACG (out) "DACG analog output", 10 DACH (out) "DACH analog output", 11 REF2 (in) "Reference voltage input to DACB", 12 LOAD (in) "Serial-interface load control", 13 LDAC (in) "DAC-update latch control", 14 REF1 (in) "Reference voltage input to DACA", 15 DACD (out) "DACD analog output", 16 DACC (out) "DACC analog output"

## TLV5628CDWG4
designator U?
8-Bit, 10 us Octal DAC, Serial Input, Programmable 1 x or 2 x Output, Low Power, 0 to 70 degC, 16-pin SOIC (DW16), Green (RoHS & no Sb/Br); Manufacturer: Texas Instruments; PartNumber: TLV5628CDWG4; DAC Channels: 8; DNL(Max)(+/-LSB): 0.9; INL(Max)(+/-LSB): 1; Interface: Serial SPI; Power Consumption(Typ)(mW): 12; Settling Time(us): 10; SubFamily: Precision DAC (=<10MSPS); DatasheetVersion: SLAS108A; PackageVersion: 4040000-2/G, 01/2011; PackageReference: DW16; PackageDescription: 16-Pin Plastic Small Outline, Body 10.30 x 7.50 mm, Pitch 1.27 mm; Supplier 1: Digi-Key; Supplier Part Number 1: TLV5628CDWG4-ND; Supplier 2: Mouser; Supplier Part Number 2: 595-TLV5628CDWG4; Eco-Plan: Green (RoHS & no Sb/Br); Resolution(Bits): 8; Mounting Technology: Surface Mount; Code_JEDEC: MS-013; ComponentLink1Description: Manufacturer URL; ComponentLink1URL: http://www.ti.com/; ComponentLink2Description: Datasheet; ComponentLink2URL: http://www.ti.com/general/docs/lit/getliterature.tsp?genericPartNumber=TLV5628&fileType=pdf; ComponentLink3Description: Package Specification; ComponentLink3URL: http://www.ti.com/litv/pdf/msoi003g
footprint TI-DW16_N (SOIC, 16-Leads, Body 10.3x7.5mm, Pitch 1.27mm, IPC Medium Density)
footprint TI-DW16_L (SOIC, 16-Leads, Body 10.3x7.5mm, Pitch 1.27mm, IPC High Density)
footprint TI-DW16_M (SOIC, 16-Leads, Body 10.3x7.5mm, Pitch 1.27mm, IPC Low Density)
pins: 1 DACB (out) "DACB analog output", 2 DACA (out) "DACA analog output", 3 GND (power) "Ground return and reference terminal", 4 DATA (in) "Serial-interface digital data input", 5 CLK (in) "Serial-interface clock, data enters on the negative edge", 6 VDD (power) "Positive supply voltage", 7 DACE (out) "DACE analog output", 8 DACF (out) "DACF analog output", 9 DACG (out) "DACG analog output", 10 DACH (out) "DACH analog output", 11 REF2 (in) "Reference voltage input to DACB", 12 LOAD (in) "Serial-interface load control", 13 LDAC (in) "DAC-update latch control", 14 REF1 (in) "Reference voltage input to DACA", 15 DACD (out) "DACD analog output", 16 DACC (out) "DACC analog output"

## TLV5628CDWR
designator U?
8-Bit, 10 us Octal DAC, Serial Input, Programmable 1 x or 2 x Output, Low Power, 0 to 70 degC, 16-pin SOIC (DW16), Green (RoHS & no Sb/Br); Manufacturer: Texas Instruments; PartNumber: TLV5628CDWR; DAC Channels: 8; DNL(Max)(+/-LSB): 0.9; INL(Max)(+/-LSB): 1; Interface: Serial SPI; Power Consumption(Typ)(mW): 12; Settling Time(us): 10; SubFamily: Precision DAC (=<10MSPS); DatasheetVersion: SLAS108A; PackageVersion: 4040000-2/G, 01/2011; PackageReference: DW16; PackageDescription: 16-Pin Plastic Small Outline, Body 10.30 x 7.50 mm, Pitch 1.27 mm; Supplier 1: Digi-Key; Supplier Part Number 1: TLV5628CDWR-ND; Supplier 2: Mouser; Supplier Part Number 2: 595-TLV5628CDWR; Eco-Plan: Green (RoHS & no Sb/Br); Resolution(Bits): 8; Mounting Technology: Surface Mount; Code_JEDEC: MS-013; ComponentLink1Description: Manufacturer URL; ComponentLink1URL: http://www.ti.com/; ComponentLink2Description: Datasheet; ComponentLink2URL: http://www.ti.com/general/docs/lit/getliterature.tsp?genericPartNumber=TLV5628&fileType=pdf; ComponentLink3Description: Package Specification; ComponentLink3URL: http://www.ti.com/litv/pdf/msoi003g
footprint TI-DW16_N (SOIC, 16-Leads, Body 10.3x7.5mm, Pitch 1.27mm, IPC Medium Density)
footprint TI-DW16_L (SOIC, 16-Leads, Body 10.3x7.5mm, Pitch 1.27mm, IPC High Density)
footprint TI-DW16_M (SOIC, 16-Leads, Body 10.3x7.5mm, Pitch 1.27mm, IPC Low Density)
pins: 1 DACB (out) "DACB analog output", 2 DACA (out) "DACA analog output", 3 GND (power) "Ground return and reference terminal", 4 DATA (in) "Serial-interface digital data input", 5 CLK (in) "Serial-interface clock, data enters on the negative edge", 6 VDD (power) "Positive supply voltage", 7 DACE (out) "DACE analog output", 8 DACF (out) "DACF analog output", 9 DACG (out) "DACG analog output", 10 DACH (out) "DACH analog output", 11 REF2 (in) "Reference voltage input to DACB", 12 LOAD (in) "Serial-interface load control", 13 LDAC (in) "DAC-update latch control", 14 REF1 (in) "Reference voltage input to DACA", 15 DACD (out) "DACD analog output", 16 DACC (out) "DACC analog output"

## TLV5628CDWRG4
designator U?
8-Bit, 10 us Octal DAC, Serial Input, Programmable 1 x or 2 x Output, Low Power, 0 to 70 degC, 16-pin SOIC (DW16), Green (RoHS & no Sb/Br); Manufacturer: Texas Instruments; PartNumber: TLV5628CDWRG4; DAC Channels: 8; DNL(Max)(+/-LSB): 0.9; INL(Max)(+/-LSB): 1; Interface: Serial SPI; Power Consumption(Typ)(mW): 12; Settling Time(us): 10; SubFamily: Precision DAC (=<10MSPS); DatasheetVersion: SLAS108A; PackageVersion: 4040000-2/G, 01/2011; PackageReference: DW16; PackageDescription: 16-Pin Plastic Small Outline, Body 10.30 x 7.50 mm, Pitch 1.27 mm; Supplier 1: Digi-Key; Supplier Part Number 1: TLV5628CDWRG4-ND; Supplier 2: Newark; Supplier Part Number 2: 33K7417; Supplier 3: Mouser; Supplier Part Number 3: 595-TLV5628CDWRG4; Eco-Plan: Green (RoHS & no Sb/Br); Resolution(Bits): 8; Mounting Technology: Surface Mount; Code_JEDEC: MS-013; ComponentLink1Description: Manufacturer URL; ComponentLink1URL: http://www.ti.com/; ComponentLink2Description: Datasheet; ComponentLink2URL: http://www.ti.com/general/docs/lit/getliterature.tsp?genericPartNumber=TLV5628&fileType=pdf; ComponentLink3Description: Package Specification; ComponentLink3URL: http://www.ti.com/litv/pdf/msoi003g
footprint TI-DW16_N (SOIC, 16-Leads, Body 10.3x7.5mm, Pitch 1.27mm, IPC Medium Density)
footprint TI-DW16_L (SOIC, 16-Leads, Body 10.3x7.5mm, Pitch 1.27mm, IPC High Density)
footprint TI-DW16_M (SOIC, 16-Leads, Body 10.3x7.5mm, Pitch 1.27mm, IPC Low Density)
pins: 1 DACB (out) "DACB analog output", 2 DACA (out) "DACA analog output", 3 GND (power) "Ground return and reference terminal", 4 DATA (in) "Serial-interface digital data input", 5 CLK (in) "Serial-interface clock, data enters on the negative edge", 6 VDD (power) "Positive supply voltage", 7 DACE (out) "DACE analog output", 8 DACF (out) "DACF analog output", 9 DACG (out) "DACG analog output", 10 DACH (out) "DACH analog output", 11 REF2 (in) "Reference voltage input to DACB", 12 LOAD (in) "Serial-interface load control", 13 LDAC (in) "DAC-update latch control", 14 REF1 (in) "Reference voltage input to DACA", 15 DACD (out) "DACD analog output", 16 DACC (out) "DACC analog output"

## TLV5628CN
designator U?
8-Bit, 10 us Octal DAC, Serial Input, Programmable 1 x or 2 x Output, Low Power, 0 to 70 degC, 16-pin DIP (N16), Pb-Free (RoHS); Manufacturer: Texas Instruments; PartNumber: TLV5628CN; DAC Channels: 8; DNL(Max)(+/-LSB): 0.9; INL(Max)(+/-LSB): 1; Interface: Serial SPI; Power Consumption(Typ)(mW): 12; Settling Time(us): 10; SubFamily: Precision DAC (=<10MSPS); DatasheetVersion: SLAS108A; PackageVersion: 4040049/E, 12/2002; PackageReference: N16; PackageDescription: 16-Pin Plastic In-Line, Body 19.305 x 6.35 mm, Pitch 2.54 mm; Supplier 1: Digi-Key; Supplier Part Number 1: 296-2313-5-ND; Supplier 2: Newark; Supplier Part Number 2: 83F9171; Supplier 3: Mouser; Supplier Part Number 3: 595-TLV5628CN; Eco-Plan: Pb-Free (RoHS); Resolution(Bits): 8; Mounting Technology: Through Hole; Code_JEDEC: MS-001; ComponentLink1Description: Manufacturer URL; ComponentLink1URL: http://www.ti.com/; ComponentLink2Description: Datasheet; ComponentLink2URL: http://www.ti.com/general/docs/lit/getliterature.tsp?genericPartNumber=TLV5628&fileType=pdf; ComponentLink3Description: Package Specification; ComponentLink3URL: http://www.ti.com/litv/pdf/mpdi002c
footprint TI-N16 (DIP, 16-Leads, Body 19.305x6.35mm, Pitch 2.54mm)
pins: 1 DACB (out) "DACB analog output", 2 DACA (out) "DACA analog output", 3 GND (power) "Ground return and reference terminal", 4 DATA (in) "Serial-interface digital data input", 5 CLK (in) "Serial-interface clock, data enters on the negative edge", 6 VDD (power) "Positive supply voltage", 7 DACE (out) "DACE analog output", 8 DACF (out) "DACF analog output", 9 DACG (out) "DACG analog output", 10 DACH (out) "DACH analog output", 11 REF2 (in) "Reference voltage input to DACB", 12 LOAD (in) "Serial-interface load control", 13 LDAC (in) "DAC-update latch control", 14 REF1 (in) "Reference voltage input to DACA", 15 DACD (out) "DACD analog output", 16 DACC (out) "DACC analog output"

## TLV5628CNE4
designator U?
8-Bit, 10 us Octal DAC, Serial Input, Programmable 1 x or 2 x Output, Low Power, 0 to 70 degC, 16-pin DIP (N16), Pb-Free (RoHS); Manufacturer: Texas Instruments; PartNumber: TLV5628CNE4; DAC Channels: 8; DNL(Max)(+/-LSB): 0.9; INL(Max)(+/-LSB): 1; Interface: Serial SPI; Power Consumption(Typ)(mW): 12; Settling Time(us): 10; SubFamily: Precision DAC (=<10MSPS); DatasheetVersion: SLAS108A; PackageVersion: 4040049/E, 12/2002; PackageReference: N16; PackageDescription: 16-Pin Plastic In-Line, Body 19.305 x 6.35 mm, Pitch 2.54 mm; Supplier 1: Digi-Key; Supplier Part Number 1: TLV5628CNE4-ND; Supplier 2: Mouser; Supplier Part Number 2: 595-TLV5628CNE4; Eco-Plan: Pb-Free (RoHS); Resolution(Bits): 8; Mounting Technology: Through Hole; Code_JEDEC: MS-001; ComponentLink1Description: Manufacturer URL; ComponentLink1URL: http://www.ti.com/; ComponentLink2Description: Datasheet; ComponentLink2URL: http://www.ti.com/general/docs/lit/getliterature.tsp?genericPartNumber=TLV5628&fileType=pdf; ComponentLink3Description: Package Specification; ComponentLink3URL: http://www.ti.com/litv/pdf/mpdi002c
footprint TI-N16 (DIP, 16-Leads, Body 19.305x6.35mm, Pitch 2.54mm)
pins: 1 DACB (out) "DACB analog output", 2 DACA (out) "DACA analog output", 3 GND (power) "Ground return and reference terminal", 4 DATA (in) "Serial-interface digital data input", 5 CLK (in) "Serial-interface clock, data enters on the negative edge", 6 VDD (power) "Positive supply voltage", 7 DACE (out) "DACE analog output", 8 DACF (out) "DACF analog output", 9 DACG (out) "DACG analog output", 10 DACH (out) "DACH analog output", 11 REF2 (in) "Reference voltage input to DACB", 12 LOAD (in) "Serial-interface load control", 13 LDAC (in) "DAC-update latch control", 14 REF1 (in) "Reference voltage input to DACA", 15 DACD (out) "DACD analog output", 16 DACC (out) "DACC analog output"